# Altium schematic symbol library MCP3004.SchLib: 1 symbol
Pins are listed as number, name and electrical type; pins without a type are passive.

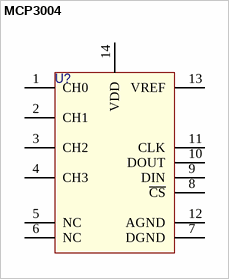
[diagram p0: symbol MCP3004]

## MCP3004
designator U?
pins: 1 CH0, 2 CH1, 3 CH2, 4 CH3, 5 NC, 6 NC, 7 DGND, 8 ~{CS}, 9 DIN, 10 DOUT, 11 CLK, 12 AGND, 13 VREF, 14 VDD